# Altium schematic symbol library Flyback Converters.SchLib: 1 symbol
Pins are listed as number, name and electrical type; pins without a type are passive.

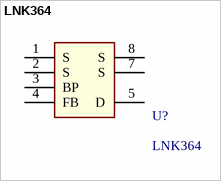
[diagram p0: symbol LNK364]

## LNK364
designator U?
Converter Offline Flyback Topology 132kHz SMD-8B 700V max inout; Manufacturer 1: Power Integrations; Manufacturer 1 PN: LNK364GN; ComponentLink1Description: Datasheet; ComponentLink1URL: https://www.power.com/sites/default/files/product-docs/lnk362-364.pdf; Digikey PN: 596-1570-ND
footprint LNK364 (Converter Offline Flyback Topology 132kHz SMD-8B 700V max input)
pins: 1 S (power) "Source", 2 S (power) "Source", 3 BP (power) "Bypass", 4 FB (power) "Feedback", 5 D (power) "Drain", 7 S (power) "Source", 8 S (power) "Source"